# Altium footprint library pcblib.PcbLib: 29 footprints (part 1 of 2)
Each footprint in its own frame and in the unit in brackets; x right, y up, seen from the top. Pads: shape width x height; smd on the part's side, far side on the other; paste and mask are expansions set on the pad; w line width, h text height; cw(c..) or ccw(c..) is an arc to the next point about the centre after c.
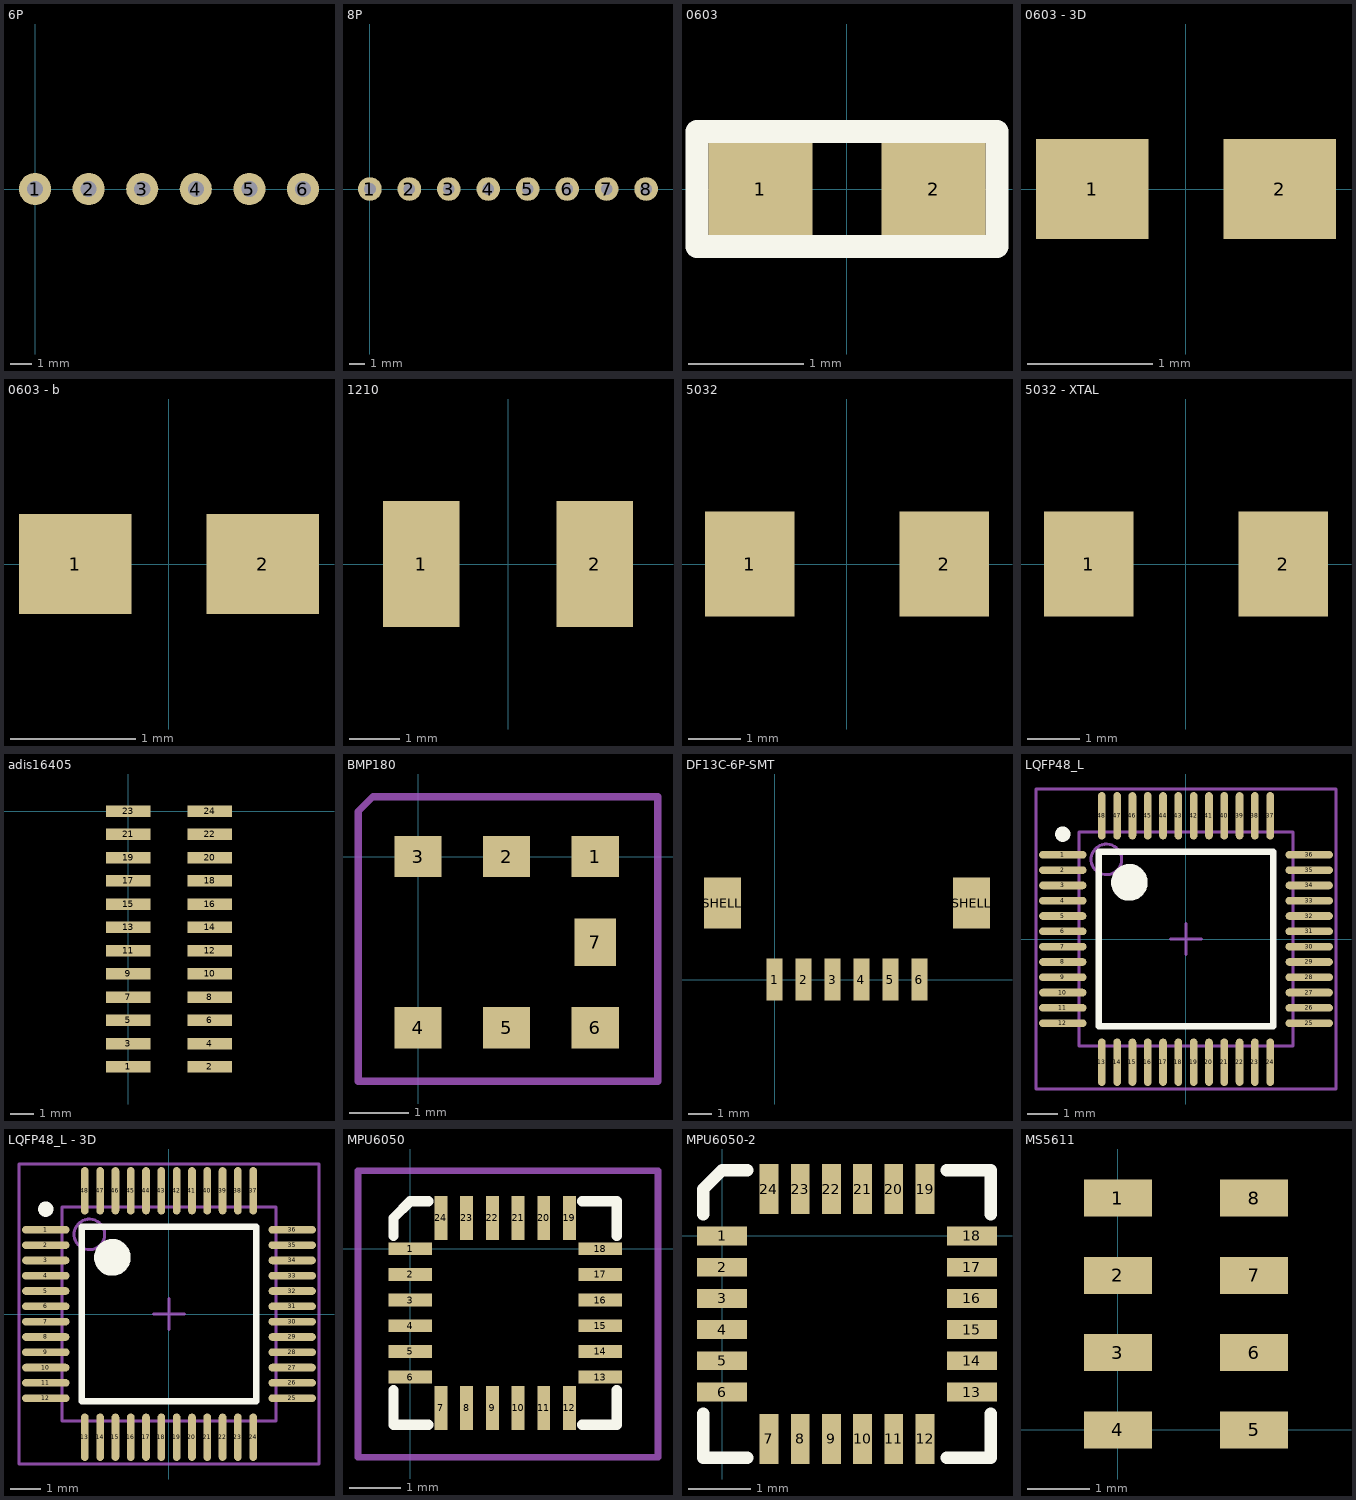
[diagram p0: the footprints below, top view; thin cyan lines are the x and y axes]

## 6P [mil]
pads (6):
  round 60 hole 30: 1(0,0) 2(100,0) 3(200,0) 4(300,0) 5(400,0) 6(500,0)

## 8P [mil]
pads (8):
  round 60 hole 30: 1(0,0) 2(100,0) 3(200,0) 4(300,0) 5(400,0) 6(500,0) 7(600,0) 8(700,0)

## 0603 [mm]
pads (2):
  rect 0.9x0.8 smd: 1(-0.75,0) 2(0.75,0)
Top Overlay:
  lines w0.2: -1.3,-0.5 -1.3,0 -1.3,0.5 1.3,0.5 1.3,-0.5 -1.3,-0.5

## 0603 - 3D [mm]
pads (2):
  rect 0.9x0.8 smd: 1(-0.75,0) 2(0.75,0)
3D body: height 0.5, standoff 0, extent -1.016,-0.381 1.016,0.381

## 0603 - b [mm]
pads (2):
  rect 0.9x0.8 smd: 1(-0.75,0) 2(0.75,0)

## 1210 [mm]
pads (2):
  rect 1.52x2.5 smd: 1(-1.715,0) 2(1.715,0)

## 5032 [mm]
pads (2):
  rect 1.7x2 smd: 1(-1.85,0) 2(1.85,0)

## 5032 - XTAL [mm]
pads (2):
  rect 1.7x2 smd: 1(-1.85,0) 2(1.85,0)
3D body: height 1.2, standoff 0, extent -2.5,-1.6 2.5,1.6

## adis16405 [mm]
pads (24):
  rect 1.905x0.5 smd: 1(0,-11) 2(3.5,-11) 3(0,-10) 4(3.5,-10) 5(0,-9) 6(3.5,-9) 7(0,-8) 8(3.5,-8) 9(0,-7) 10(3.5,-7) 11(0,-6) 12(3.5,-6) 13(0,-5) 14(3.5,-5) 15(0,-4) 16(3.5,-4) 17(0,-3) 18(3.5,-3) 19(0,-2) 20(3.5,-2) 21(0,-1) 22(3.5,-1) 23(0,0) 24(3.5,0)

## BMP180 [mm]
pads (7):
  rect 0.8x0.7 smd: 1(3,0) 2(1.5,0) 3(0,0) 4(0,-2.9) 5(1.5,-2.9) 6(3,-2.9)
  rect 0.7x0.8 smd: 7(3,-1.45)
Mechanical 15:
  lines w0.127: -1.016,-3.81 -1.016,0.762 -0.762,1.016 4.064,1.016 4.064,-3.81 -1.016,-3.81

## DF13C-6P-SMT [mm]
pads (8):
  rect 0.7x1.8 smd: 1(0,0) 2(1.25,0) 3(2.5,0) 4(3.75,0) 5(5,0) 6(6.25,0)
  rect 1.6x2.2 smd: SHELL(-2.25,3.3) SHELL(8.5,3.3)
3D body: height 3, standoff 0, extent -2.667,0.381 8.89,6.477

## LQFP48_L [mm]
pads (48):
  oval 1.55x0.25 smd: 1(-4.025,2.75) 2(-4.025,2.25) 3(-4.025,1.75) 4(-4.025,1.25) 5(-4.025,0.75) 6(-4.025,0.25) 7(-4.025,-0.25) 8(-4.025,-0.75) 9(-4.025,-1.25) 10(-4.025,-1.75) 11(-4.025,-2.25) 12(-4.025,-2.75) 25(4.025,-2.75) 26(4.025,-2.25) 27(4.025,-1.75) 28(4.025,-1.25) 29(4.025,-0.75) 30(4.025,-0.25) 31(4.025,0.25) 32(4.025,0.75) 33(4.025,1.25) 34(4.025,1.75) 35(4.025,2.25) 36(4.025,2.75)
  oval 0.25x1.55 smd: 13(-2.75,-4.025) 14(-2.25,-4.025) 15(-1.75,-4.025) 16(-1.25,-4.025) 17(-0.75,-4.025) 18(-0.25,-4.025) 19(0.25,-4.025) 20(0.75,-4.025) 21(1.25,-4.025) 22(1.75,-4.025) 23(2.25,-4.025) 24(2.75,-4.025) 37(2.75,4.025) 38(2.25,4.025) 39(1.75,4.025) 40(1.25,4.025) 41(0.75,4.025) 42(0.25,4.025) 43(-0.25,4.025) 44(-0.75,4.025) 45(-1.25,4.025) 46(-1.75,4.025) 47(-2.25,4.025) 48(-2.75,4.025)
Top Overlay:
  circle w0.25: c-4.025,3.425 r0.125
  circle w0.6: c-1.85,1.85 r0.3
  lines w0.2: -2.85,-2.85 -2.85,2.85 2.85,2.85 2.85,-2.85 -2.85,-2.85
Mechanical 13:
  circle w0.1: c-2.6,2.6 r0.5
  lines w0.1: -3.5,-3.5 -3.5,3.5 3.5,3.5 3.5,-3.5 -3.5,-3.5
Mechanical 15:
  lines w0.1: -0.5,0 0.5,0 ; 0,-0.5 0,0.5 ; -4.9,-4.9 -4.9,4.9 4.9,4.9 4.9,-4.9 -4.9,-4.9

## LQFP48_L - 3D [mm]
pads (48):
  oval 1.55x0.25 smd: 1(-4.025,2.75) 2(-4.025,2.25) 3(-4.025,1.75) 4(-4.025,1.25) 5(-4.025,0.75) 6(-4.025,0.25) 7(-4.025,-0.25) 8(-4.025,-0.75) 9(-4.025,-1.25) 10(-4.025,-1.75) 11(-4.025,-2.25) 12(-4.025,-2.75) 25(4.025,-2.75) 26(4.025,-2.25) 27(4.025,-1.75) 28(4.025,-1.25) 29(4.025,-0.75) 30(4.025,-0.25) 31(4.025,0.25) 32(4.025,0.75) 33(4.025,1.25) 34(4.025,1.75) 35(4.025,2.25) 36(4.025,2.75)
  oval 0.25x1.55 smd: 13(-2.75,-4.025) 14(-2.25,-4.025) 15(-1.75,-4.025) 16(-1.25,-4.025) 17(-0.75,-4.025) 18(-0.25,-4.025) 19(0.25,-4.025) 20(0.75,-4.025) 21(1.25,-4.025) 22(1.75,-4.025) 23(2.25,-4.025) 24(2.75,-4.025) 37(2.75,4.025) 38(2.25,4.025) 39(1.75,4.025) 40(1.25,4.025) 41(0.75,4.025) 42(0.25,4.025) 43(-0.25,4.025) 44(-0.75,4.025) 45(-1.25,4.025) 46(-1.75,4.025) 47(-2.25,4.025) 48(-2.75,4.025)
Top Overlay:
  circle w0.6: c-1.85,1.85 r0.3
  circle w0.25: c-4.025,3.425 r0.125
  lines w0.2: -2.85,-2.85 2.85,-2.85 2.85,2.85 -2.85,2.85 -2.85,-2.85
Mechanical 13:
  circle w0.1: c-2.6,2.6 r0.5
  lines w0.1: -3.5,-3.5 3.5,-3.5 3.5,3.5 -3.5,3.5 -3.5,-3.5
Mechanical 15:
  lines w0.1: -0.5,0 0.5,0 ; 0,-0.5 0,0.5 ; -4.9,-4.9 4.9,-4.9 4.9,4.9 -4.9,4.9 -4.9,-4.9
3D body: height 1.5, standoff 0.1, extent -3.48,-3.505 3.48,3.48

## MPU6050 [mm]
pads (24):
  rect 0.85x0.25 smd: 1(0,0) 2(0,-0.5) 3(0,-1) 4(0,-1.5) 5(0,-2) 6(0,-2.5) 13(3.7,-2.5) 14(3.7,-2) 15(3.7,-1.5) 16(3.7,-1) 17(3.7,-0.5) 18(3.7,0)
  rect 0.25x0.85 smd: 7(0.6,-3.1) 8(1.1,-3.1) 9(1.6,-3.1) 10(2.1,-3.1) 11(2.6,-3.1) 12(3.1,-3.1) 19(3.1,0.6) 20(2.6,0.6) 21(2.1,0.6) 22(1.6,0.6) 23(1.1,0.6) 24(0.6,0.6)
Top Overlay:
  lines w0.2: -0.325,-2.75 -0.325,-3.425 0.35,-3.425 ; -0.325,0.25 -0.325,0.6 0,0.925 0.35,0.925 ; 3.35,-3.425 4.025,-3.425 4.025,-2.75 ; 3.35,0.925 4.025,0.925 4.025,0.25
Mechanical 15:
  lines w0.127: -1.016,-4.064 4.826,-4.064 4.826,1.524 -1.016,1.524 -1.016,-4.064
3D body: height 1, standoff 0, extent -0.127,-3.302 3.81,0.762

## MPU6050-2 [mm]
pads (24):
  rect 0.8x0.3 smd: 1(0,0) 2(0,-0.5) 3(0,-1) 4(0,-1.5) 5(0,-2) 6(0,-2.5) 13(4,-2.5) 14(4,-2) 15(4,-1.5) 16(4,-1) 17(4,-0.5) 18(4,0)
  rect 0.3x0.8 smd: 7(0.75,-3.25) 8(1.25,-3.25) 9(1.75,-3.25) 10(2.25,-3.25) 11(2.75,-3.25) 12(3.25,-3.25) 19(3.25,0.75) 20(2.75,0.75) 21(2.25,0.75) 22(1.75,0.75) 23(1.25,0.75) 24(0.75,0.75)
Top Overlay:
  lines w0.2: -0.3,-2.85 -0.3,-3.55 0.4,-3.55 ; -0.3,0.35 -0.3,0.75 0,1.05 0.4,1.05 ; 3.6,-3.55 4.3,-3.55 4.3,-2.85 ; 3.6,1.05 4.3,1.05 4.3,0.35
3D body: height 1, standoff 0, extent 0.254,-2.921 3.683,0.508

## MS5611 [mm]
pads (8):
  rect 1.1x0.6 smd: 1(0,3.75) 2(0,2.5) 3(0,1.25) 4(0,0) 5(2.2,0) 6(2.2,1.25) 7(2.2,2.5) 8(2.2,3.75)
3D body: height 1, standoff 0, extent -0.508,-0.508 2.667,4.318